# Altium integrated library FS44B0_CORE.IntLib: 25 symbols
Pins are listed as number, name and electrical type; pins without a type are passive.

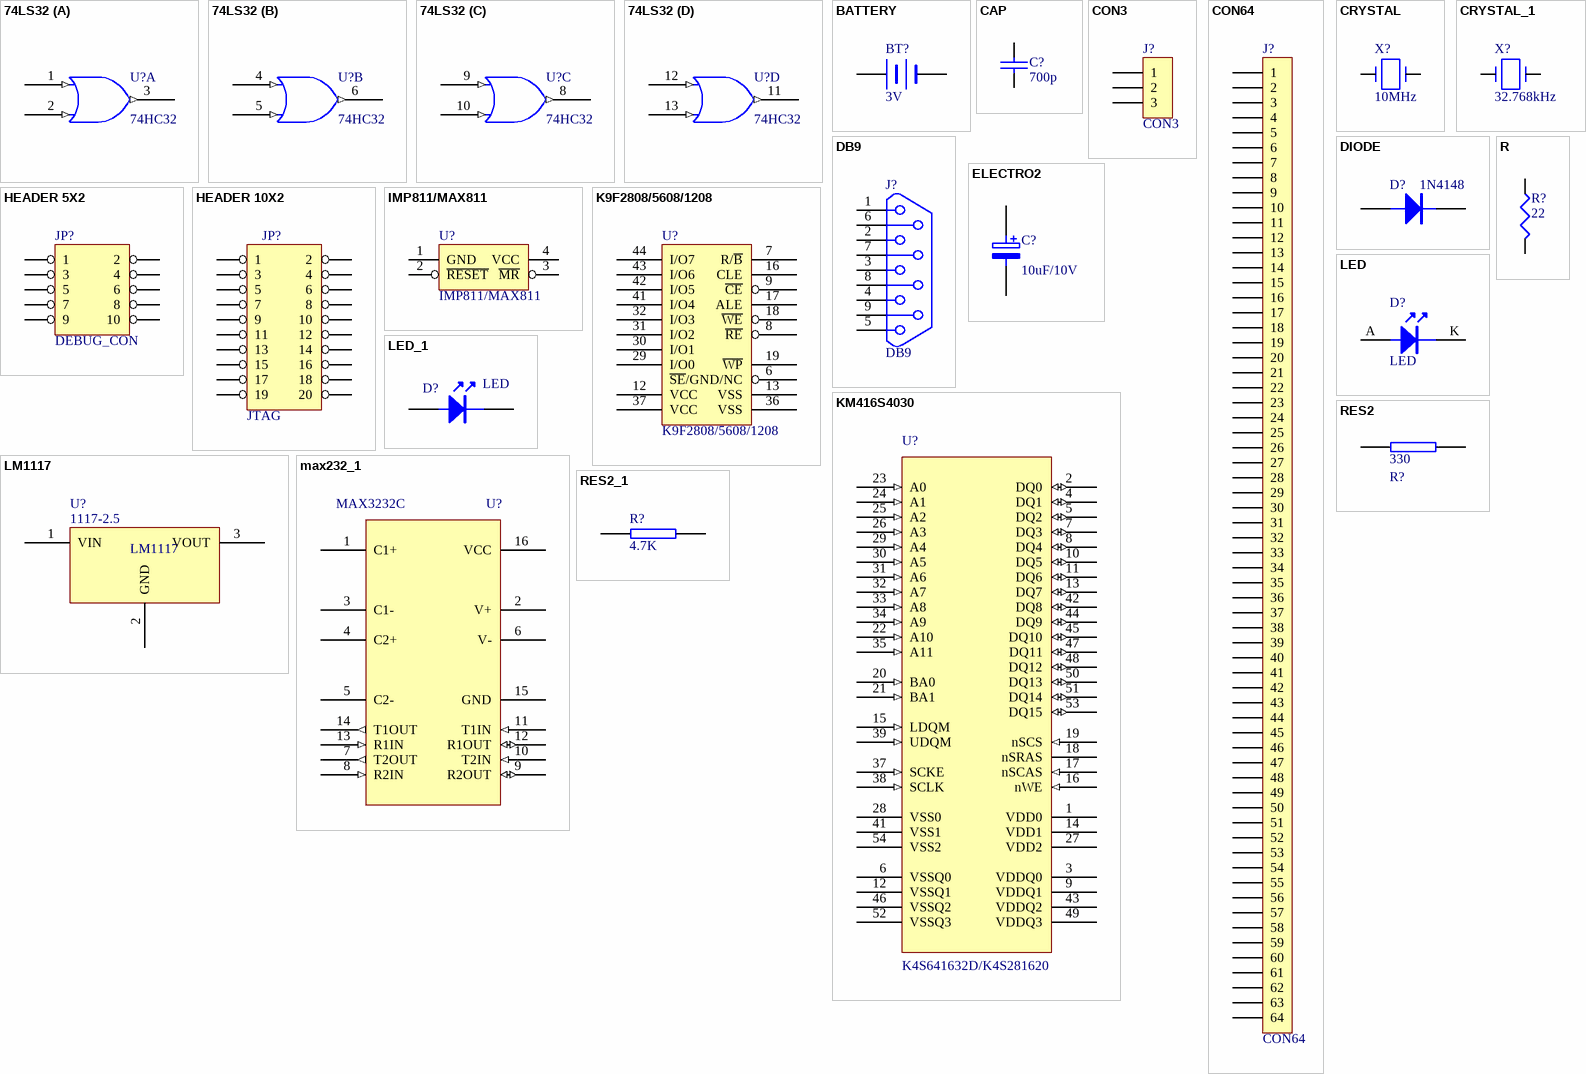
[diagram p0: symbols 74LS32 to RES2_1]

## 74LS32
designator U?, comment 74HC32
footprint DIP-14
footprint SO-14
part A pins: 1 (in), 2 (in), 3 (out), 7 GND (power) hidden to GND, 14 VCC (power) hidden to VCC
part B pins: 4 (in), 5 (in), 6 (out), 7 GND (power) hidden to GND, 14 VCC (power) hidden to VCC
part C pins: 7 GND (power) hidden to GND, 8 (out), 9 (in), 10 (in), 14 VCC (power) hidden to VCC
part D pins: 7 GND (power) hidden to GND, 11 (out), 12 (in), 13 (in), 14 VCC (power) hidden to VCC

## BATTERY
designator BT?, comment 3V
Battery
footprint BATTERY2
pins: 1 +, 2 -

## CAP
designator C?, comment 700p
Capacitor
footprint C0805
pins: 1, 2

## CON3
designator J?
Connector
footprint DC-JACK
pins: 1, 2, 3

## CON64
designator J?
footprint 64PIN-DIP-2.0
pins: 1, 2, 3, 4, 5, 6, 7, 8, 9, 10, 11, 12, 13, 14, 15, 16, 17, 18, 19, 20, 21, 22, 23, 24, 25, 26, 27, 28, 29, 30, 31, 32, 33, 34, 35, 36, 37, 38, 39, 40, 41, 42, 43, 44, 45, 46, 47, 48, 49, 50, 51, 52, 53, 54, 55, 56, 57, 58, 59, 60, 61, 62, 63, 64

## CRYSTAL
designator X?, comment 10MHz
Text Field1: 20; Text Field2: 20
footprint XTAL2
pins: 1, 2

## CRYSTAL_1
designator X?, comment 32.768kHz
Text Field1: 20; Text Field2: 20
footprint XTAL-B
pins: 1, 2

## DB9
designator J?
footprint DB9-COM
pins: 1, 2, 3, 4, 5, 6, 7, 8, 9

## DIODE
designator D?, comment 1N4148
Diode
footprint 3.2X1.6X1.1
pins: 1 K, 2 A

## ELECTRO2
designator C?, comment 10uF/10V
Electrolytic Capacitor
footprint C1206 (Chip Capacitor; Body 3.2 x 1.6 mm (LxW typ))
pins: 1, 2

## HEADER 5X2
designator JP?, comment DEBUG_CON
footprint HDR2X5
pins: 1, 2, 3, 4, 5, 6, 7, 8, 9, 10

## HEADER 10X2
designator JP?, comment JTAG
footprint 20PIN2
pins: 1, 2, 3, 4, 5, 6, 7, 8, 9, 10, 11, 12, 13, 14, 15, 16, 17, 18, 19, 20

## IMP811/MAX811
designator U?
footprint 811
pins: 1 GND, 2 ~{RESET}, 3 ~{MR}, 4 VCC

## K9F2808/5608/1208
designator U?
footprint TSOP48N
pins: 6 ~{SE}/GND/NC, 7 R/~{B}, 8 ~{RE}, 9 ~{CE}, 12 VCC (power), 13 VSS, 16 CLE, 17 ALE, 18 ~{WE}, 19 ~{WP}, 29 I/O0, 30 I/O1, 31 I/O2, 32 I/O3, 36 VSS, 37 VCC (power), 41 I/O4, 42 I/O5, 43 I/O6, 44 I/O7
2 alternate drawings of the same symbol

## KM416S4030
designator U?, comment K4S641632D/K4S281620
Text Field1: 100; Text Field2: 330
footprint TSOP54
pins: 1 VDD0 (power), 2 DQ0 (io), 3 VDDQ0 (power), 4 DQ1 (io), 5 DQ2 (io), 6 VSSQ0 (power), 7 DQ3 (io), 8 DQ4 (io), 9 VDDQ1 (power), 10 DQ5 (io), 11 DQ6 (io), 12 VSSQ1 (power), 13 DQ7 (io), 14 VDD1 (power), 15 LDQM (in), 16 nWE (in), 17 nSCAS (in), 18 nSRAS, 19 nSCS (in), 20 BA0 (in), 21 BA1 (in), 22 A10 (in), 23 A0 (in), 24 A1 (in), 25 A2 (in), 26 A3 (in), 27 VDD2 (power), 28 VSS0 (power), 29 A4 (in), 30 A5 (in), 31 A6 (in), 32 A7 (in), 33 A8 (in), 34 A9 (in), 35 A11 (in), 37 SCKE (in), 38 SCLK (in), 39 UDQM (in), 41 VSS1 (power), 42 DQ8 (io), 43 VDDQ2 (power), 44 DQ9 (io), 45 DQ10 (io), 46 VSSQ2 (power), 47 DQ11 (io), 48 DQ12 (io), 49 VDDQ3 (power), 50 DQ13 (io), 51 DQ14 (io), 52 VSSQ3 (power), 53 DQ15 (io), 54 VSS2 (power)

## LED
designator D?
footprint LED
pins: A 1, K 2

## LED_1
designator D?, comment LED
footprint LED
pins: A 1, K 2

## LM1117
designator U?, comment 1117-2.5
footprint LM1117
pins: 1 VIN, 2 GND, 3 VOUT

## max232_1
designator U?, comment MAX3232C
Text Field1: 90; Text Field2: 190
footprint SO-16
pins: 1 C1+, 2 V+, 3 C1-, 4 C2+, 5 C2-, 6 V-, 7 T2OUT (out), 8 R2IN (in), 9 R2OUT (io), 10 T2IN (in), 11 T1IN (in), 12 R1OUT (io), 13 R1IN (in), 14 T1OUT (out), 15 GND (power), 16 VCC (power)

## R
designator R?, comment 22
Text Field1: 20; Text Field2: 30
footprint R0805
pins: 1, 2

## RES2
designator R?, comment 330
footprint R0805
pins: 1, 2

## RES2_1
designator R?, comment 4.7K
footprint R0805
pins: 1, 2

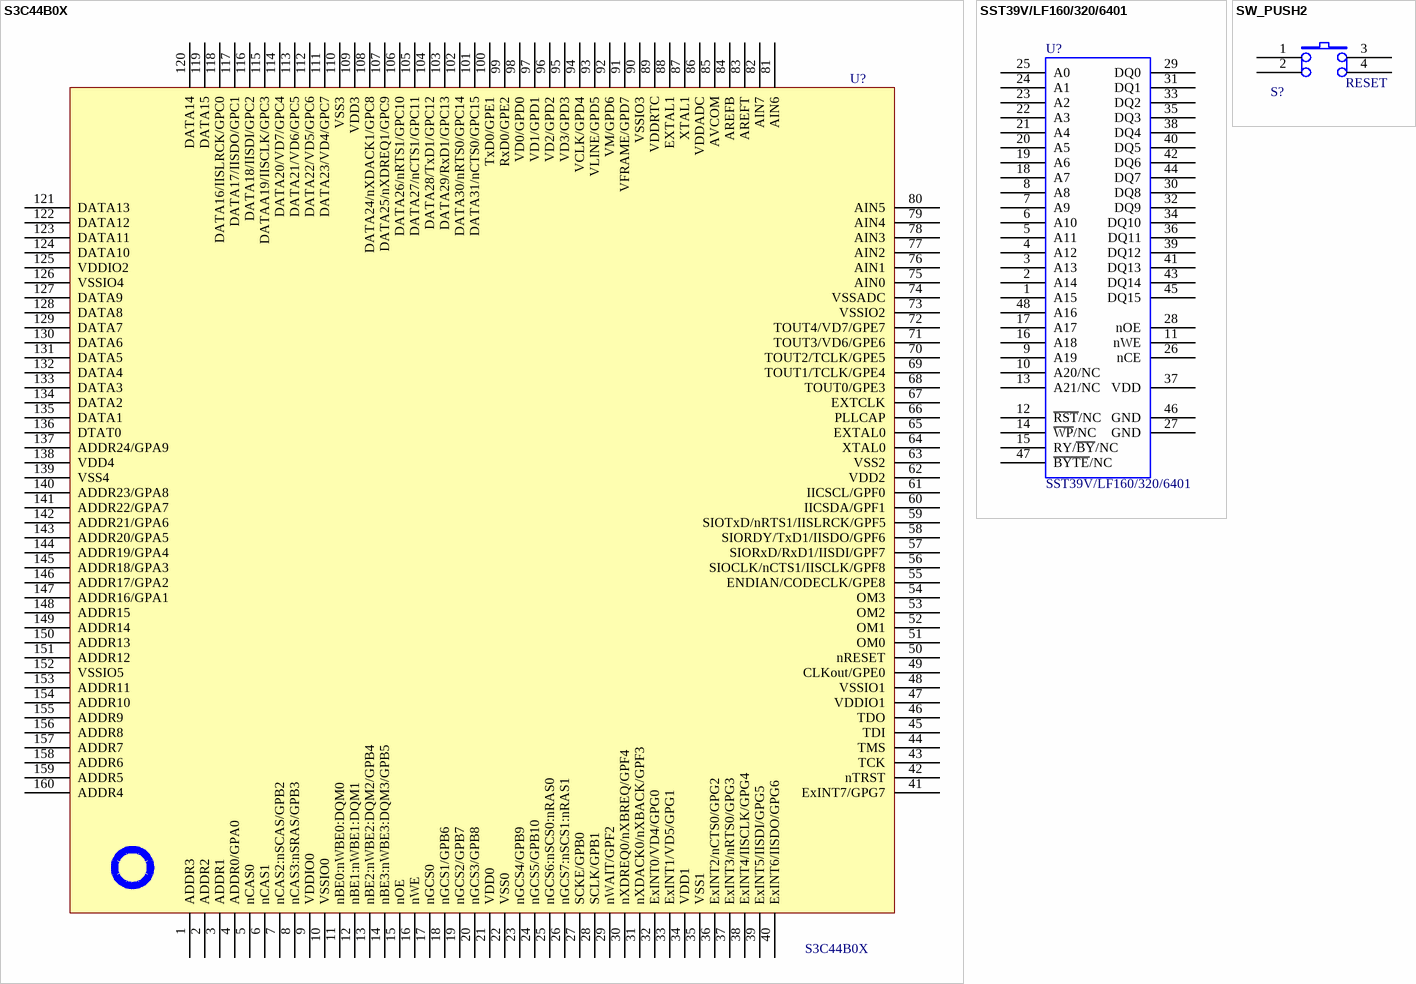
[diagram p1: symbols S3C44B0X to SW_PUSH2]

## S3C44B0X
designator U?
Text Field1: 630; Text Field2: 630
footprint S3c44B0x
pins: 1 ADDR3, 2 ADDR2, 3 ADDR1, 4 ADDR0/GPA0, 5 nCAS0, 6 nCAS1, 7 nCAS2:nSCAS/GPB2, 8 nCAS3:nSRAS/GPB3, 9 VDDIO0, 10 VSSIO0, 11 nBE0:nWBE0:DQM0, 12 nBE1:nWBE1:DQM1, 13 nBE2:nWBE2:DQM2/GPB4, 14 nBE3:nWBE3:DQM3/GPB5, 15 nOE, 16 nWE, 17 nGCS0, 18 nGCS1/GPB6, 19 nGCS2/GPB7, 20 nGCS3/GPB8, 21 VDD0, 22 VSS0, 23 nGCS4/GPB9, 24 nGCS5/GPB10, 25 nGCS6:nSCS0:nRAS0, 26 nGCS7:nSCS1:nRAS1, 27 SCKE/GPB0, 28 SCLK/GPB1, 29 nWAIT/GPF2, 30 nXDREQ0/nXBREQ/GPF4, 31 nXDACK0/nXBACK/GPF3, 32 ExINT0/VD4/GPG0, 33 ExINT1/VD5/GPG1, 34 VDD1, 35 VSS1, 36 ExINT2/nCTS0/GPG2, 37 ExINT3/nRTS0/GPG3, 38 ExINT4/IISCLK/GPG4, 39 ExINT5/IISDI/GPG5, 40 ExINT6/IISDO/GPG6, 41 ExINT7/GPG7, 42 nTRST, 43 TCK, 44 TMS, 45 TDI, 46 TDO, 47 VDDIO1, 48 VSSIO1, 49 CLKout/GPE0, 50 nRESET, 51 OM0, 52 OM1, 53 OM2, 54 OM3, 55 ENDIAN/CODECLK/GPE8, 56 SIOCLK/nCTS1/IISCLK/GPF8, 57 SIORxD/RxD1/IISDI/GPF7, 58 SIORDY/TxD1/IISDO/GPF6, 59 SIOTxD/nRTS1/IISLRCK/GPF5, 60 IICSDA/GPF1, 61 IICSCL/GPF0, 62 VDD2, 63 VSS2, 64 XTAL0, 65 EXTAL0, 66 PLLCAP, 67 EXTCLK, 68 TOUT0/GPE3, 69 TOUT1/TCLK/GPE4, 70 TOUT2/TCLK/GPE5, 71 TOUT3/VD6/GPE6, 72 TOUT4/VD7/GPE7, 73 VSSIO2, 74 VSSADC, 75 AIN0, 76 AIN1, 77 AIN2, 78 AIN3, 79 AIN4, 80 AIN5, 81 AIN6, 82 AIN7, 83 AREFT, 84 AREFB, 85 AVCOM, 86 VDDADC, 87 XTAL1, 88 EXTAL1, 89 VDDRTC, 90 VSSIO3, 91 VFRAME/GPD7, 92 VM/GPD6, 93 VLINE/GPD5, 94 VCLK/GPD4, 95 VD3/GPD3, 96 VD2/GPD2, 97 VD1/GPD1, 98 VD0/GPD0, 99 RxD0/GPE2, 100 TxD0/GPE1, 101 DATA31/nCTS0/GPC15, 102 DATA30/nRTS0/GPC14, 103 DATA29/RxD1/GPC13, 104 DATA28/TxD1/GPC12, 105 DATA27/nCTS1/GPC11, 106 DATA26/nRTS1/GPC10, 107 DATA25/nXDREQ1/GPC9, 108 DATA24/nXDACK1/GPC8, 109 VDD3, 110 VSS3, 111 DATA23/VD4/GPC7, 112 DATA22/VD5/GPC6, 113 DATA21/VD6/GPC5, 114 DATA20/VD7/GPC4, 115 DATAA19/IISCLK/GPC3, 116 DATA18/IISDI/GPC2, 117 DATA17/IISDO/GPC1, 118 DATA16/IISLRCK/GPC0, 119 DATA15, 120 DATA14, 121 DATA13, 122 DATA12, 123 DATA11, 124 DATA10, 125 VDDIO2, 126 VSSIO4, 127 DATA9, 128 DATA8, 129 DATA7, 130 DATA6, 131 DATA5, 132 DATA4, 133 DATA3, 134 DATA2, 135 DATA1, 136 DTAT0, 137 ADDR24/GPA9, 138 VDD4, 139 VSS4, 140 ADDR23/GPA8, 141 ADDR22/GPA7, 142 ADDR21/GPA6, 143 ADDR20/GPA5, 144 ADDR19/GPA4, 145 ADDR18/GPA3, 146 ADDR17/GPA2, 147 ADDR16/GPA1, 148 ADDR15, 149 ADDR14, 150 ADDR13, 151 ADDR12, 152 VSSIO5, 153 ADDR11, 154 ADDR10, 155 ADDR9, 156 ADDR8, 157 ADDR7, 158 ADDR6, 159 ADDR5, 160 ADDR4

## SST39V/LF160/320/6401
designator U?
SST 16 Mbit (x16) Multi-Purpose Flash
footprint TSOP48N
pins: 1 A15, 2 A14, 3 A13, 4 A12, 5 A11, 6 A10, 7 A9, 8 A8, 9 A19, 10 A20/NC, 11 nWE, 12 ~{RST}/NC, 13 A21/NC, 14 ~{WP}/NC, 15 RY/~{BY}/NC, 16 A18, 17 A17, 18 A7, 19 A6, 20 A5, 21 A4, 22 A3, 23 A2, 24 A1, 25 A0, 26 nCE, 27 GND, 28 nOE, 29 DQ0, 30 DQ8, 31 DQ1, 32 DQ9, 33 DQ2, 34 DQ10, 35 DQ3, 36 DQ11, 37 VDD, 38 DQ4, 39 DQ12, 40 DQ5, 41 DQ13, 42 DQ6, 43 DQ14, 44 DQ7, 45 DQ15, 46 GND, 47 ~{BYTE}/NC, 48 A16
2 alternate drawings of the same symbol

## SW_PUSH2
designator S?, comment RESET
Text Field1: 30; Text Field2: 30
footprint Reset
pins: 1, 2, 3 2, 4 6